# Altium schematic symbol library Radio_TH_2x12.SchLib: 1 symbol
Pins are listed as number, name and electrical type; pins without a type are passive.

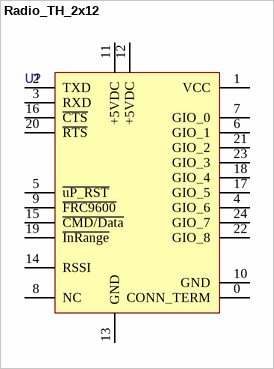
[diagram p0: symbol Radio_TH_2x12]

## Radio_TH_2x12
designator U?, comment RM024  (value not drawn)
pins: 0 CONN_TERM, 1 VCC, 2 TXD, 3 RXD, 4 GIO_6, 5 ~{uP_RST}, 6 GIO_1, 7 GIO_0, 8 NC, 9 ~{FRC9600}, 10 GND, 11 +5VDC, 12 +5VDC, 13 GND, 14 RSSI, 15 ~{CMD/Data}, 16 ~{CTS}, 17 GIO_5, 18 GIO_4, 19 ~{InRange}, 20 ~{RTS}, 21 GIO_2, 22 GIO_8, 23 GIO_3, 24 GIO_7
1 alternate drawing of the same symbol